# Altium footprint library T11.PcbLib: 36 footprints (part 3 of 3)
Each footprint in its own frame and in the unit in brackets; x right, y up, seen from the top. Pads: shape width x height; smd on the part's side, far side on the other; paste and mask are expansions set on the pad; w line width, h text height; cw(c..) or ccw(c..) is an arc to the next point about the centre after c.
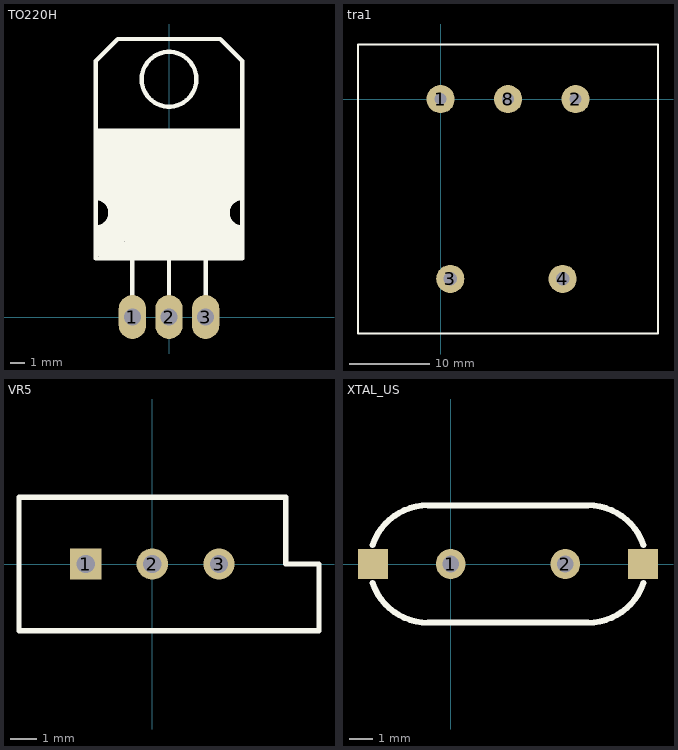
[diagram p2: the footprints below, top view; thin cyan lines are the x and y axes]

## TO220H [mm]
pads (3):
  oval 1.905x3.048 hole 1.2: 1(-2.54,0) 2(0,0) 3(2.54,0)
Top Overlay:
  circle w0.305: c0,16.51 r1.9
  lines w0.305: -5.08,6.223 ccw(c-5.08,7.239) -5.08,8.255 ; -5.08,12.954 5.08,12.954 ; -4.445,6.35 -4.064,6.35 ; -4.445,8.128 -3.937,8.128 ; -2.54,0.762 -2.54,3.937 ; 0,0.762 0,3.937 ; 2.54,0.762 2.54,3.937 ; 4.064,6.35 4.445,6.35 ; 4.064,8.128 4.445,8.128 ; 5.08,6.223 cw(c5.08,7.239) 5.08,8.255 ; -5.08,4.064 5.08,4.064 5.08,17.78 3.556,19.304 -3.556,19.304 -5.08,17.78 -5.08,4.064
  lines w0.6: -4.77,8.51 -4.77,9.53 ; -4.71,4.81 -4.71,6 ; -4.453,8.473 -4.453,12.167 -4.246,11.96 -3.83,11.96 -3.95,11.84 -3.95,8.141 ; -3.92,5.41 -3.92,5.16 -3.43,4.67 -3.43,6.28 -3.41,6.3 ; 3.41,5.49 -2.92,5.49 -3.43,6 3.01,6 3.38,6.37 -3.14,6.37 -3.41,6.64 2.88,6.64 3.41,7.17 -2.98,7.17 -3.38,7.57 2.99,7.57 3.41,7.99 -2.95,7.99 -3.35,8.39 2.84,8.39 3.38,8.93 -3.5,8.93 -3.95,9.38 3.36,9.38 3.84,9.86 -2.93,9.86 -3.41,10.34 2.91,10.34 3.41,10.84 -3.47,10.84 -3.95,11.32 3.59,11.32 4.11,11.84 -3.41,11.84 -3.41,6.3 ; 3.41,12.57 3.41,4.5 3.81,4.9 3.81,5.65 ; 3.84,8.69 3.84,12.12 ; 4.74,5.54 4.74,6.02 ; 4.74,8.52 4.74,8.804 ; -4.77,12.57 4.8,12.57 4.74,12.51 4.74,8.804 ; -4.77,12.57 -4.77,8.79 -3.77,7.79 -3.77,6.644 -4.71,5.704 -4.71,4.42 4.71,4.42 4.74,4.39 4.74,5.79 3.83,6.7 3.83,7.894 4.74,8.804 ; -4.77,12.57 -4.41,12.21 4.27,12.21 4.28,12.2 4.28,9 3.47,8.19 3.47,6.54 4.21,5.8 4.21,4.84 4.13,4.92 -4.25,4.92 -4.39,5.06 -4.39,5.32 -3.41,6.3

## tra1 [mm]
pads (5):
  round 3.5 hole 1.5: 1(0,0) 2(16.821,0) 8(8.4,0)
  round 3.5 hole 1.7: 3(1.2,-22.4) 4(15.2,-22.4)
Top Overlay:
  lines w0.2: -10.3,-29.2 -10.3,6.8 27.083,6.8 27.083,-29.2 -10.3,-29.2

## VR5 [mm] "Potentiometer; 3 Leads"
pads (3):
  rect 1.2x1.2 hole 0.7: 1(-2.54,0)
  round 1.2 hole 0.7: 2(0,0) 3(2.54,0)
Top Overlay:
  lines w0.2: -5.08,-2.54 -5.08,2.54 5.08,2.54 5.08,0 6.35,0 6.35,-2.54 -5.08,-2.54

## XTAL_US [mil]
pads (4):
  round 50 hole 28: 1(0,0) 2(192.13,0)
  rect 50x50 smd: ""(-130.32,0) ""(322.44,0)
Top Overlay:
  lines w10: -130.92,-31.85 ccw(c-37.79,0) -37.79,-98.42 ; -130.92,31.85 cw(c-37.79,0) -37.79,98.43 ; -38,98.42 229.92,98.43 cw(c229.92,0) 323.05,31.85 ; -37.8,-98.43 229.92,-98.42 ccw(c229.92,0) 323.05,-31.85